# EAGLE library part 691325110008 (library Wurth_Terminal_Blocks_Connectors_rev15d)
WR-TBL Serie 3251 - 3.5mm Horizontal PCB Header with Flanges , 8 Pins=>Code : Con_TBL_Pluggable_3.50_PCB_H_691325110008 <http://katalog.we-online.de/media/images/eican/Con_TBL_Pluggable_3.50_PCB_H_6913251100xx_pf2.jpg> Details see: http://katalog.we-online.de/en/em/691_325_110_0xx Created 2014-06-19, Karrer Zheng 2014 (C) Würth Elektronik
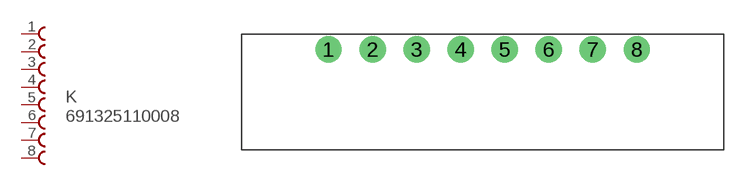
[diagram p16: symbol with the pads of 691325110008; footprint 691325110008]

Designator prefix K

## 691325110008  [691325110008]
1  1  pas
2  2  pas
3  3  pas
4  4  pas
5  5  pas
6  6  pas
7  7  pas
8  8  pas

## Footprint 691325110008 (pad centres in mm)
WR-TBL Serie 3251 - 3.5mm Horizontal PCB Header with Flanges , 8 Pins
drill 1.4: 1 -14,0; 2 -10.5,0; 3 -7,0; 4 -3.5,0; 5 0,0; 6 3.5,0; 7 7,0; 8 10.5,0